# EAGLE library part 74HC595BQ,115 (library johnmamish-nxp)
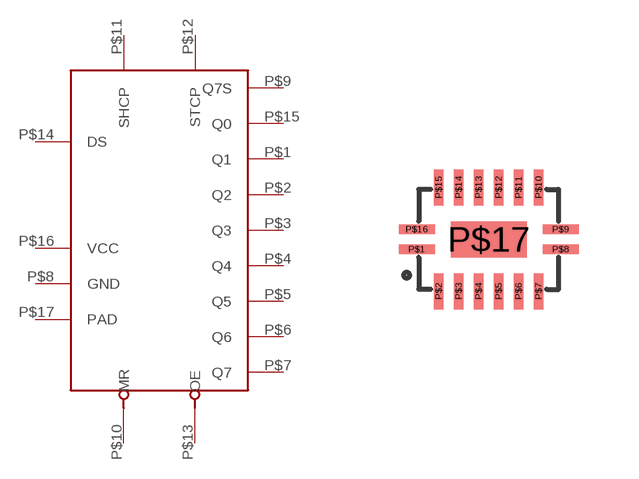
[diagram p0: symbol with the pads of DHVQFN16_2.5X3.5MM; footprint DHVQFN16_2.5X3.5MM]

Designator prefix -

## 74HC595BQ,115  [DHVQFN16_2.5X3.5MM]
P$1  Q1
P$2  Q2
P$3  Q3
P$4  Q4
P$5  Q5
P$6  Q6
P$7  Q7
P$8  GND
P$9  Q7S
P$10  MR
P$11  SHCP
P$12  STCP
P$13  OE
P$14  DS
P$15  Q0
P$16  VCC
P$17  PAD

## Footprint DHVQFN16_2.5X3.5MM (pad centres in mm)
smd 0.9 x 0.24: P$1 -1.8,-0.25; P$8 1.8,-0.25; P$9 1.8,0.25; P$16 -1.8,0.25
smd 0.24 x 0.9: P$2 -1.25,-1.3; P$3 -0.75,-1.3; P$4 -0.25,-1.3; P$5 0.25,-1.3; P$6 0.75,-1.3; P$7 1.25,-1.3; P$10 1.25,1.3; P$11 0.75,1.3; P$12 0.25,1.3; P$13 -0.25,1.3; P$14 -0.75,1.3; P$15 -1.25,1.3
smd 1.9 x 0.9: P$17 0,0